# Altium footprint library B2B-EH-A.PcbLib: 1 footprints
Each footprint in its own frame and in the unit in brackets; x right, y up, seen from the top. Pads: shape width x height; smd on the part's side, far side on the other; paste and mask are expansions set on the pad; w line width, h text height; cw(c..) or ccw(c..) is an arc to the next point about the centre after c.
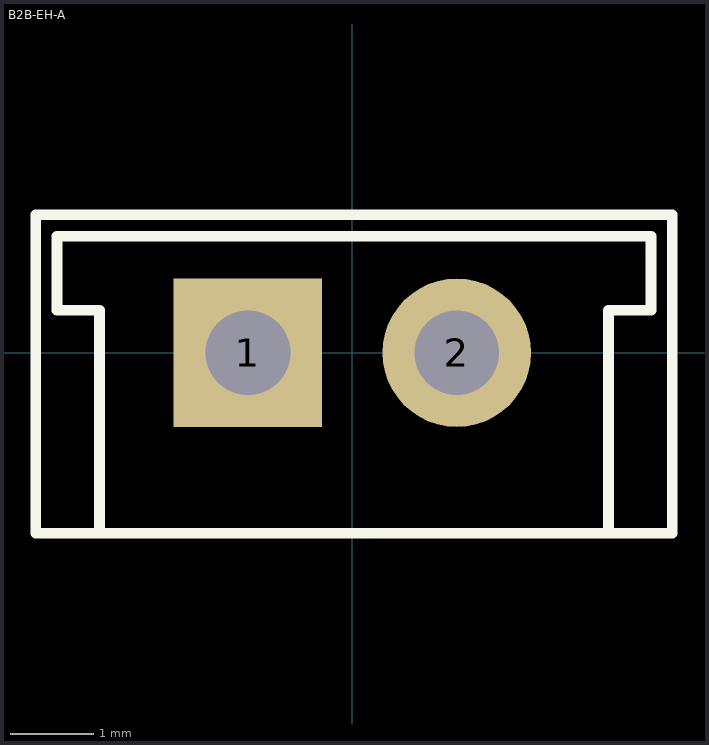
[diagram p0: the footprint, top view; thin cyan lines are the x and y axes]

## B2B-EH-A [mil] "EH Connector 2.5mm pitch"
height 236.22
pads (2):
  rect 70x70 hole 40: 1(-49.21,0)
  round 70 hole 40: 2(49.21,0)
TopOverlay:
  lines w5: -119.21,-85 -119.21,20 -139.21,20 -139.21,55 140.79,55 140.79,20 120.79,20 120.79,-85 ; -149.21,-85 -149.21,65 150.79,65 150.79,-85 -149.21,-85
3D body: height 236.22, standoff 0, extent -149.19,-84.98 150.77,64.98
3D body: height 39.37, standoff 0, extent -139.19,-84.98 140.77,54.98